# Altium integrated library NSC Interface.IntLib: 1288 symbols (part 37 of 45)
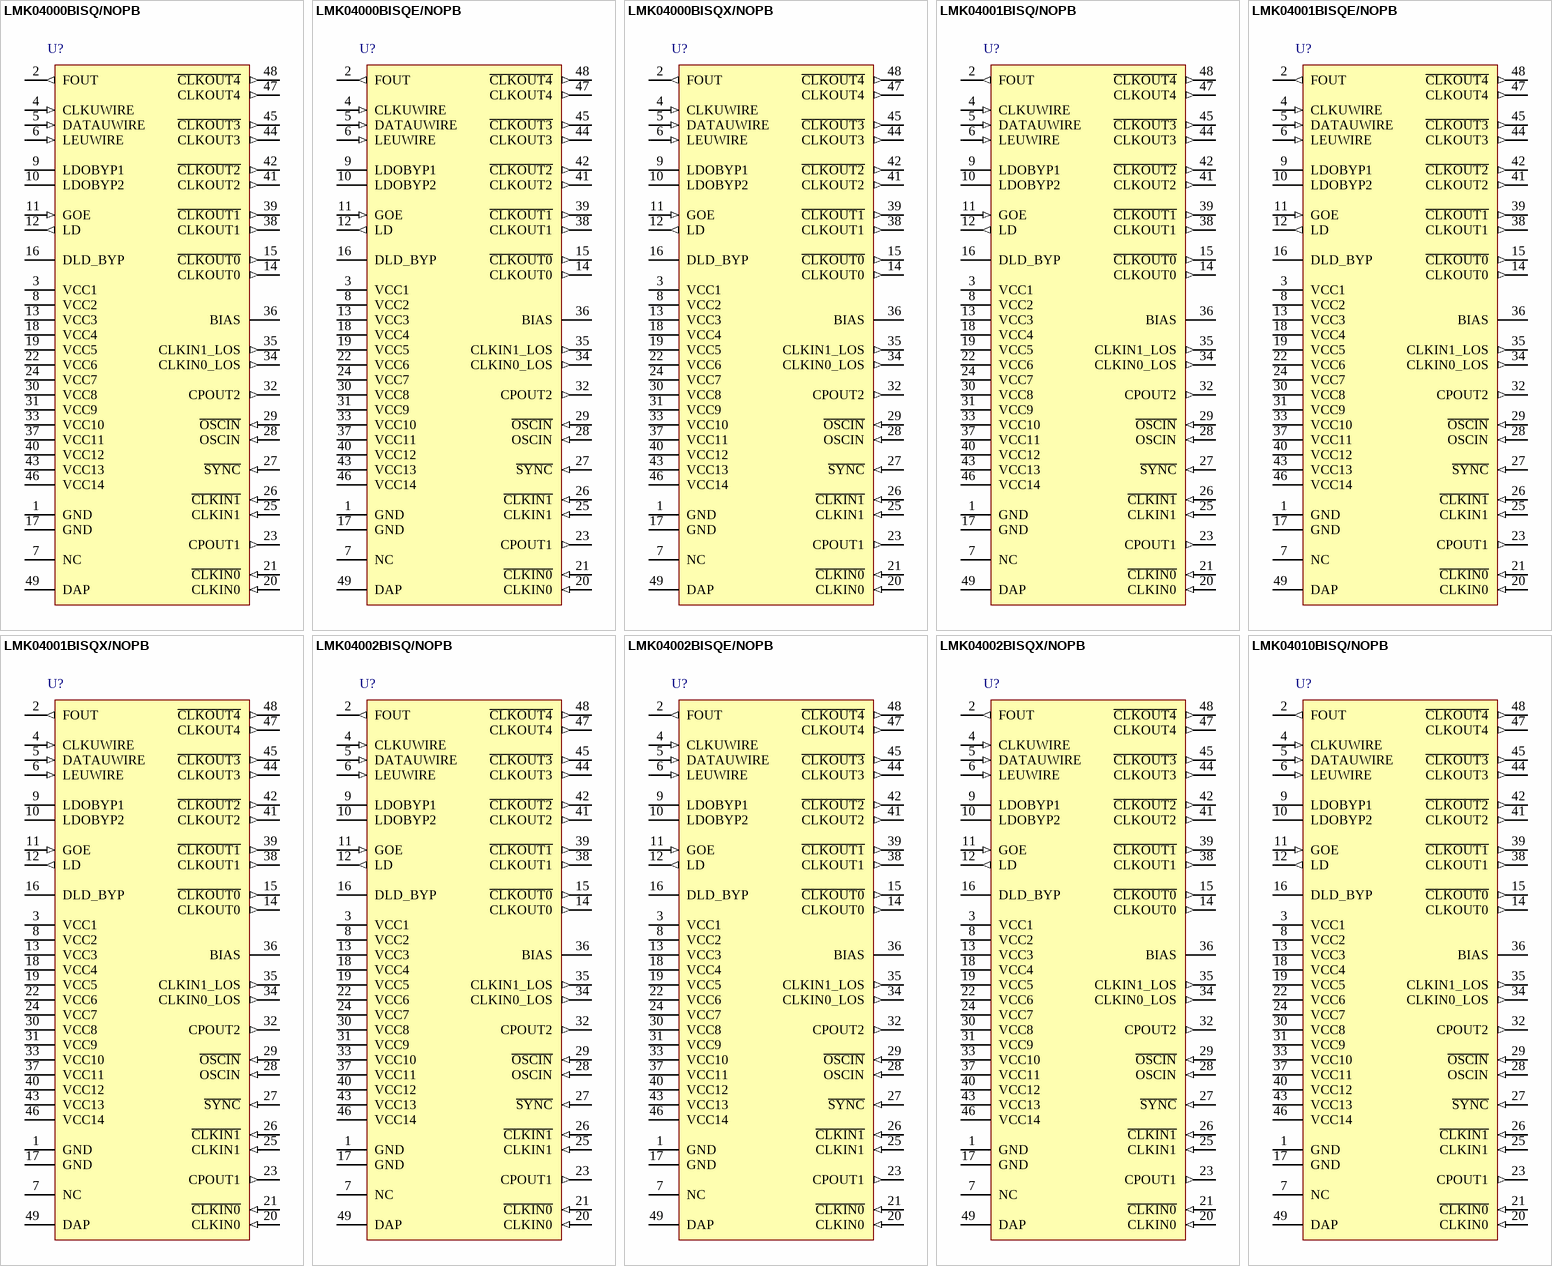
[diagram p148: symbols LMK04000BISQ/NOPB to LMK04010BISQ/NOPB]

## LMK04010BISQ/NOPB
designator U?
Low-Noise Clock Jitter Cleaner with Cascaded PLLs, 48-pin LLP, Pb-Free; PartNumber: LMK04010BISQ/NOPB; Manufacturer: National Semiconductor; PackageTopMarking: NS*UZXYTTE#*K04010BI; PowerWise: Y; CompType: Interface IC; Published: 1-Mar-2010; DatasheetVersion: Jul-2009; PackageVersion: revB, May-2009; PackageReference: SQA48A; Publisher: Altium Limited; PackageDescription: LLP, Plastic, Quad, 7 x 7 x 0.8mm Body, 48 Lead, 0.5mm Pitch, No Pullback; Supplier 1: Digi-Key; Supplier Part Number 1: LMK04010BISQ-ND; RoHS: Y; PinCount: 48; Code_JEDEC: MO-220-WKKD-2; ComponentLink1Description: LMK04010 Datasheet; ComponentLink1URL: http://www.national.com/ds/LM/LMK04010.pdf; ComponentLink2Description: LMK04010 Web Page; ComponentLink2URL: http://www.national.com/pf/LM/LMK04010.html; ComponentLink3Description: SQA48A Package Page; ComponentLink3URL: http://www.national.com/packaging/folders/sqa48a.html
footprint SQA48A (QFN, 48-Leads, Body 7x7mm, Pitch 0.5mm, NSC Recommended)
pins: 1 GND (power), 2 FOUT (out), 3 VCC1 (power), 4 CLKUWIRE (in), 5 DATAUWIRE (in), 6 LEUWIRE (in), 7 NC, 8 VCC2 (power), 9 LDOBYP1, 10 LDOBYP2, 11 GOE (in), 12 LD (out), 13 VCC3 (power), 14 CLKOUT0 (out), 15 ~{CLKOUT0} (out), 16 DLD_BYP (power), 17 GND (power), 18 VCC4 (power), 19 VCC5 (power), 20 CLKIN0 (in), 21 ~{CLKIN0} (in), 22 VCC6 (power), 23 CPOUT1 (out), 24 VCC7 (power), 25 CLKIN1 (in), 26 ~{CLKIN1} (in), 27 ~{SYNC} (in), 28 OSCIN (in), 29 ~{OSCIN} (in), 30 VCC8 (power), 31 VCC9 (power), 32 CPOUT2 (out), 33 VCC10 (power), 34 CLKIN0_LOS (out), 35 CLKIN1_LOS (out), 36 BIAS, 37 VCC11 (power), 38 CLKOUT1 (out), 39 ~{CLKOUT1} (out), 40 VCC12 (power), 41 CLKOUT2 (out), 42 ~{CLKOUT2} (out), 43 VCC13 (power), 44 CLKOUT3 (out), 45 ~{CLKOUT3} (out), 46 VCC14 (power), 47 CLKOUT4 (out), 48 ~{CLKOUT4} (out), 49 DAP (power)

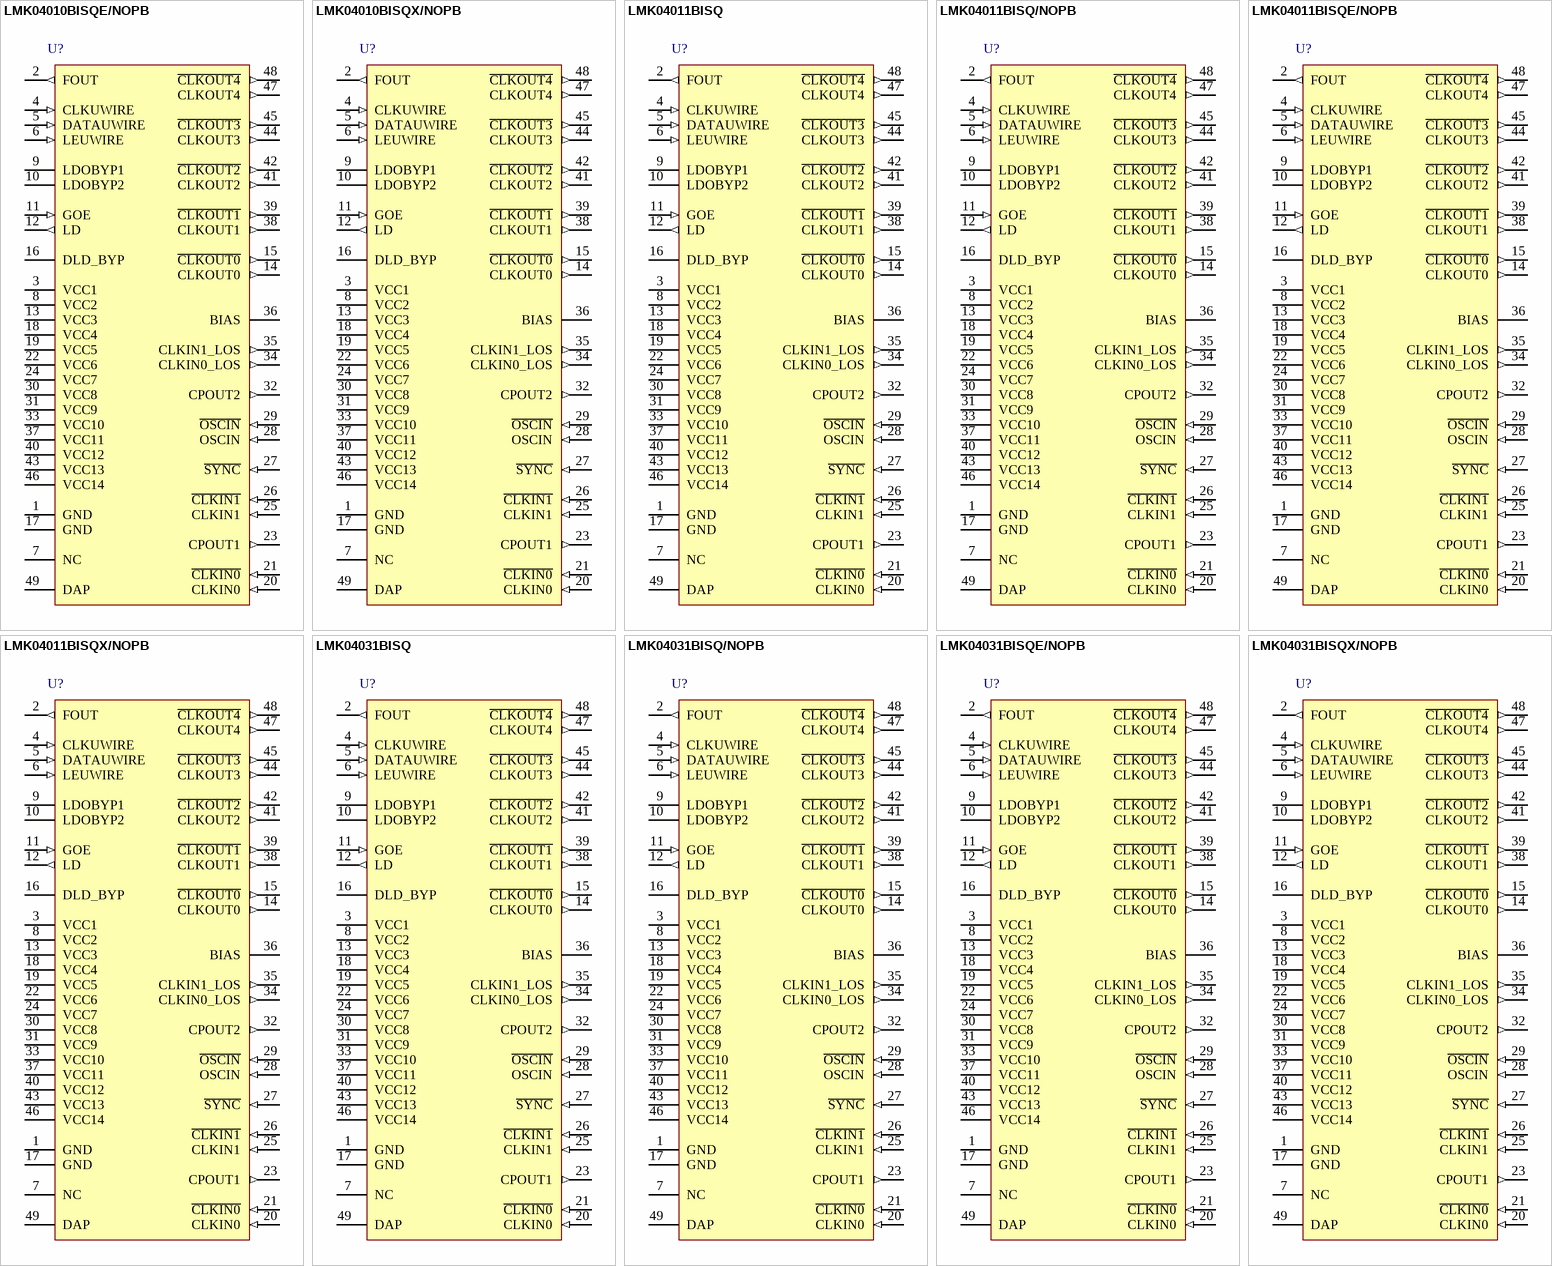
[diagram p91: symbols LMK04010BISQE/NOPB to LMK04031BISQX/NOPB]

## LMK04010BISQE/NOPB
designator U?
Low-Noise Clock Jitter Cleaner with Cascaded PLLs, 48-pin LLP, Pb-Free; PartNumber: LMK04010BISQE/NOPB; Manufacturer: National Semiconductor; PackageTopMarking: NS*UZXYTTE#*K04010BI; PowerWise: Y; CompType: Interface IC; Published: 1-Mar-2010; DatasheetVersion: Jul-2009; PackageVersion: revB, May-2009; PackageReference: SQA48A; Publisher: Altium Limited; PackageDescription: LLP, Plastic, Quad, 7 x 7 x 0.8mm Body, 48 Lead, 0.5mm Pitch, No Pullback; Supplier 1: Digi-Key; Supplier Part Number 1: LMK04010BISQETR-ND; Supplier 2: Digi-Key; Supplier Part Number 2: LMK04010BISQECT-ND; Supplier 3: Digi-Key; Supplier Part Number 3: LMK04010BISQEDKR-ND; Supplier 4: Farnell; Supplier Part Number 4: 1791117; RoHS: Y; PinCount: 48; Code_JEDEC: MO-220-WKKD-2; ComponentLink1Description: LMK04010 Datasheet; ComponentLink1URL: http://www.national.com/ds/LM/LMK04010.pdf; ComponentLink2Description: LMK04010 Web Page; ComponentLink2URL: http://www.national.com/pf/LM/LMK04010.html; ComponentLink3Description: SQA48A Package Page; ComponentLink3URL: http://www.national.com/packaging/folders/sqa48a.html
footprint SQA48A (QFN, 48-Leads, Body 7x7mm, Pitch 0.5mm, NSC Recommended)
pins: 1 GND (power), 2 FOUT (out), 3 VCC1 (power), 4 CLKUWIRE (in), 5 DATAUWIRE (in), 6 LEUWIRE (in), 7 NC, 8 VCC2 (power), 9 LDOBYP1, 10 LDOBYP2, 11 GOE (in), 12 LD (out), 13 VCC3 (power), 14 CLKOUT0 (out), 15 ~{CLKOUT0} (out), 16 DLD_BYP (power), 17 GND (power), 18 VCC4 (power), 19 VCC5 (power), 20 CLKIN0 (in), 21 ~{CLKIN0} (in), 22 VCC6 (power), 23 CPOUT1 (out), 24 VCC7 (power), 25 CLKIN1 (in), 26 ~{CLKIN1} (in), 27 ~{SYNC} (in), 28 OSCIN (in), 29 ~{OSCIN} (in), 30 VCC8 (power), 31 VCC9 (power), 32 CPOUT2 (out), 33 VCC10 (power), 34 CLKIN0_LOS (out), 35 CLKIN1_LOS (out), 36 BIAS, 37 VCC11 (power), 38 CLKOUT1 (out), 39 ~{CLKOUT1} (out), 40 VCC12 (power), 41 CLKOUT2 (out), 42 ~{CLKOUT2} (out), 43 VCC13 (power), 44 CLKOUT3 (out), 45 ~{CLKOUT3} (out), 46 VCC14 (power), 47 CLKOUT4 (out), 48 ~{CLKOUT4} (out), 49 DAP (power)

## LMK04010BISQX/NOPB
designator U?
Low-Noise Clock Jitter Cleaner with Cascaded PLLs, 48-pin LLP, Pb-Free; PartNumber: LMK04010BISQX/NOPB; Manufacturer: National Semiconductor; PackageTopMarking: NS*UZXYTTE#*K04010BI; PowerWise: Y; CompType: Interface IC; Published: 1-Mar-2010; DatasheetVersion: Jul-2009; PackageVersion: revB, May-2009; PackageReference: SQA48A; Publisher: Altium Limited; PackageDescription: LLP, Plastic, Quad, 7 x 7 x 0.8mm Body, 48 Lead, 0.5mm Pitch, No Pullback; Supplier 1: Digi-Key; Supplier Part Number 1: LMK04010BISQX-ND; RoHS: Y; PinCount: 48; Code_JEDEC: MO-220-WKKD-2; ComponentLink1Description: LMK04010 Datasheet; ComponentLink1URL: http://www.national.com/ds/LM/LMK04010.pdf; ComponentLink2Description: LMK04010 Web Page; ComponentLink2URL: http://www.national.com/pf/LM/LMK04010.html; ComponentLink3Description: SQA48A Package Page; ComponentLink3URL: http://www.national.com/packaging/folders/sqa48a.html
footprint SQA48A (QFN, 48-Leads, Body 7x7mm, Pitch 0.5mm, NSC Recommended)
pins: 1 GND (power), 2 FOUT (out), 3 VCC1 (power), 4 CLKUWIRE (in), 5 DATAUWIRE (in), 6 LEUWIRE (in), 7 NC, 8 VCC2 (power), 9 LDOBYP1, 10 LDOBYP2, 11 GOE (in), 12 LD (out), 13 VCC3 (power), 14 CLKOUT0 (out), 15 ~{CLKOUT0} (out), 16 DLD_BYP (power), 17 GND (power), 18 VCC4 (power), 19 VCC5 (power), 20 CLKIN0 (in), 21 ~{CLKIN0} (in), 22 VCC6 (power), 23 CPOUT1 (out), 24 VCC7 (power), 25 CLKIN1 (in), 26 ~{CLKIN1} (in), 27 ~{SYNC} (in), 28 OSCIN (in), 29 ~{OSCIN} (in), 30 VCC8 (power), 31 VCC9 (power), 32 CPOUT2 (out), 33 VCC10 (power), 34 CLKIN0_LOS (out), 35 CLKIN1_LOS (out), 36 BIAS, 37 VCC11 (power), 38 CLKOUT1 (out), 39 ~{CLKOUT1} (out), 40 VCC12 (power), 41 CLKOUT2 (out), 42 ~{CLKOUT2} (out), 43 VCC13 (power), 44 CLKOUT3 (out), 45 ~{CLKOUT3} (out), 46 VCC14 (power), 47 CLKOUT4 (out), 48 ~{CLKOUT4} (out), 49 DAP (power)

## LMK04011BISQ
designator U?
Precision Clock Conditioners Low-Noise Clock Jitter Cleaner with Cascaded PLLs, 48-pin LLP; PartNumber: LMK04011BISQ; Manufacturer: National Semiconductor; PackageTopMarking: NS*UZXYTT*K04011BI; PowerWise: Y; CompType: Interface IC; Published: 4-Dec-2008; LatestRevisionDate: 1-Mar-2010; LatestRevisionNote: Updated to datasheet version Jul-2009; DatasheetVersion: Jul-2009; PackageVersion: revB, May-2009; PackageReference: SQA48A; Publisher: Altium Limited; PackageDescription: LLP, Plastic, Quad, 7 x 7 x 0.8mm Body, 48 Lead, 0.5mm Pitch, No Pullback; RoHS: Y; PinCount: 48; Code_JEDEC: MO-220-WKKD-2; ComponentLink1Description: LMK04011B Datasheet; ComponentLink1URL: http://www.national.com/ds/LM/LMK04000.pdf; ComponentLink2Description: LMK04011B Web Page; ComponentLink2URL: http://www.national.com/pf/LM/LMK04011B.html; ComponentLink3Description: SQA48A Package Page; ComponentLink3URL: http://www.national.com/packaging/folders/sqa48a.html
footprint SQA48A (QFN, 48-Leads, Body 7x7mm, Pitch 0.5mm, NSC Recommended)
pins: 1 GND (power), 2 FOUT (out), 3 VCC1 (power), 4 CLKUWIRE (in), 5 DATAUWIRE (in), 6 LEUWIRE (in), 7 NC, 8 VCC2 (power), 9 LDOBYP1, 10 LDOBYP2, 11 GOE (in), 12 LD (out), 13 VCC3 (power), 14 CLKOUT0 (out), 15 ~{CLKOUT0} (out), 16 DLD_BYP (power), 17 GND (power), 18 VCC4 (power), 19 VCC5 (power), 20 CLKIN0 (in), 21 ~{CLKIN0} (in), 22 VCC6 (power), 23 CPOUT1 (out), 24 VCC7 (power), 25 CLKIN1 (in), 26 ~{CLKIN1} (in), 27 ~{SYNC} (in), 28 OSCIN (in), 29 ~{OSCIN} (in), 30 VCC8 (power), 31 VCC9 (power), 32 CPOUT2 (out), 33 VCC10 (power), 34 CLKIN0_LOS (out), 35 CLKIN1_LOS (out), 36 BIAS, 37 VCC11 (power), 38 CLKOUT1 (out), 39 ~{CLKOUT1} (out), 40 VCC12 (power), 41 CLKOUT2 (out), 42 ~{CLKOUT2} (out), 43 VCC13 (power), 44 CLKOUT3 (out), 45 ~{CLKOUT3} (out), 46 VCC14 (power), 47 CLKOUT4 (out), 48 ~{CLKOUT4} (out), 49 DAP (power)

## LMK04011BISQ/NOPB
designator U?
Low-Noise Clock Jitter Cleaner with Cascaded PLLs, 48-pin LLP, Pb-Free; PartNumber: LMK04011BISQ/NOPB; Manufacturer: National Semiconductor; PackageTopMarking: NS*UZXYTTE#*K04011BI; PowerWise: Y; CompType: Interface IC; Published: 1-Mar-2010; DatasheetVersion: Jul-2009; PackageVersion: revB, May-2009; PackageReference: SQA48A; Publisher: Altium Limited; PackageDescription: LLP, Plastic, Quad, 7 x 7 x 0.8mm Body, 48 Lead, 0.5mm Pitch, No Pullback; Supplier 1: Digi-Key; Supplier Part Number 1: LMK04011BISQ-ND; RoHS: Y; PinCount: 48; Code_JEDEC: MO-220-WKKD-2; ComponentLink1Description: LMK04011 Datasheet; ComponentLink1URL: http://www.national.com/ds/LM/LMK04011.pdf; ComponentLink2Description: LMK04011 Web Page; ComponentLink2URL: http://www.national.com/pf/LM/LMK04011.html; ComponentLink3Description: SQA48A Package Page; ComponentLink3URL: http://www.national.com/packaging/folders/sqa48a.html
footprint SQA48A (QFN, 48-Leads, Body 7x7mm, Pitch 0.5mm, NSC Recommended)
pins: 1 GND (power), 2 FOUT (out), 3 VCC1 (power), 4 CLKUWIRE (in), 5 DATAUWIRE (in), 6 LEUWIRE (in), 7 NC, 8 VCC2 (power), 9 LDOBYP1, 10 LDOBYP2, 11 GOE (in), 12 LD (out), 13 VCC3 (power), 14 CLKOUT0 (out), 15 ~{CLKOUT0} (out), 16 DLD_BYP (power), 17 GND (power), 18 VCC4 (power), 19 VCC5 (power), 20 CLKIN0 (in), 21 ~{CLKIN0} (in), 22 VCC6 (power), 23 CPOUT1 (out), 24 VCC7 (power), 25 CLKIN1 (in), 26 ~{CLKIN1} (in), 27 ~{SYNC} (in), 28 OSCIN (in), 29 ~{OSCIN} (in), 30 VCC8 (power), 31 VCC9 (power), 32 CPOUT2 (out), 33 VCC10 (power), 34 CLKIN0_LOS (out), 35 CLKIN1_LOS (out), 36 BIAS, 37 VCC11 (power), 38 CLKOUT1 (out), 39 ~{CLKOUT1} (out), 40 VCC12 (power), 41 CLKOUT2 (out), 42 ~{CLKOUT2} (out), 43 VCC13 (power), 44 CLKOUT3 (out), 45 ~{CLKOUT3} (out), 46 VCC14 (power), 47 CLKOUT4 (out), 48 ~{CLKOUT4} (out), 49 DAP (power)

## LMK04011BISQE/NOPB
designator U?
Low-Noise Clock Jitter Cleaner with Cascaded PLLs, 48-pin LLP, Pb-Free; PartNumber: LMK04011BISQE/NOPB; Manufacturer: National Semiconductor; PackageTopMarking: NS*UZXYTTE#*K04011BI; PowerWise: Y; CompType: Interface IC; Published: 1-Mar-2010; DatasheetVersion: Jul-2009; PackageVersion: revB, May-2009; PackageReference: SQA48A; Publisher: Altium Limited; PackageDescription: LLP, Plastic, Quad, 7 x 7 x 0.8mm Body, 48 Lead, 0.5mm Pitch, No Pullback; Supplier 1: Digi-Key; Supplier Part Number 1: LMK04011BISQETR-ND; Supplier 2: Digi-Key; Supplier Part Number 2: LMK04011BISQECT-ND; Supplier 3: Digi-Key; Supplier Part Number 3: LMK04011BISQEDKR-ND; RoHS: Y; PinCount: 48; Code_JEDEC: MO-220-WKKD-2; ComponentLink1Description: LMK04011 Datasheet; ComponentLink1URL: http://www.national.com/ds/LM/LMK04011.pdf; ComponentLink2Description: LMK04011 Web Page; ComponentLink2URL: http://www.national.com/pf/LM/LMK04011.html; ComponentLink3Description: SQA48A Package Page; ComponentLink3URL: http://www.national.com/packaging/folders/sqa48a.html
footprint SQA48A (QFN, 48-Leads, Body 7x7mm, Pitch 0.5mm, NSC Recommended)
pins: 1 GND (power), 2 FOUT (out), 3 VCC1 (power), 4 CLKUWIRE (in), 5 DATAUWIRE (in), 6 LEUWIRE (in), 7 NC, 8 VCC2 (power), 9 LDOBYP1, 10 LDOBYP2, 11 GOE (in), 12 LD (out), 13 VCC3 (power), 14 CLKOUT0 (out), 15 ~{CLKOUT0} (out), 16 DLD_BYP (power), 17 GND (power), 18 VCC4 (power), 19 VCC5 (power), 20 CLKIN0 (in), 21 ~{CLKIN0} (in), 22 VCC6 (power), 23 CPOUT1 (out), 24 VCC7 (power), 25 CLKIN1 (in), 26 ~{CLKIN1} (in), 27 ~{SYNC} (in), 28 OSCIN (in), 29 ~{OSCIN} (in), 30 VCC8 (power), 31 VCC9 (power), 32 CPOUT2 (out), 33 VCC10 (power), 34 CLKIN0_LOS (out), 35 CLKIN1_LOS (out), 36 BIAS, 37 VCC11 (power), 38 CLKOUT1 (out), 39 ~{CLKOUT1} (out), 40 VCC12 (power), 41 CLKOUT2 (out), 42 ~{CLKOUT2} (out), 43 VCC13 (power), 44 CLKOUT3 (out), 45 ~{CLKOUT3} (out), 46 VCC14 (power), 47 CLKOUT4 (out), 48 ~{CLKOUT4} (out), 49 DAP (power)

## LMK04011BISQX/NOPB
designator U?
Low-Noise Clock Jitter Cleaner with Cascaded PLLs, 48-pin LLP, Pb-Free; PartNumber: LMK04011BISQX/NOPB; Manufacturer: National Semiconductor; PackageTopMarking: NS*UZXYTTE#*K04011BI; PowerWise: Y; CompType: Interface IC; Published: 1-Mar-2010; DatasheetVersion: Jul-2009; PackageVersion: revB, May-2009; PackageReference: SQA48A; Publisher: Altium Limited; PackageDescription: LLP, Plastic, Quad, 7 x 7 x 0.8mm Body, 48 Lead, 0.5mm Pitch, No Pullback; Supplier 1: Digi-Key; Supplier Part Number 1: LMK04011BISQX-ND; RoHS: Y; PinCount: 48; Code_JEDEC: MO-220-WKKD-2; ComponentLink1Description: LMK04011 Datasheet; ComponentLink1URL: http://www.national.com/ds/LM/LMK04011.pdf; ComponentLink2Description: LMK04011 Web Page; ComponentLink2URL: http://www.national.com/pf/LM/LMK04011.html; ComponentLink3Description: SQA48A Package Page; ComponentLink3URL: http://www.national.com/packaging/folders/sqa48a.html
footprint SQA48A (QFN, 48-Leads, Body 7x7mm, Pitch 0.5mm, NSC Recommended)
pins: 1 GND (power), 2 FOUT (out), 3 VCC1 (power), 4 CLKUWIRE (in), 5 DATAUWIRE (in), 6 LEUWIRE (in), 7 NC, 8 VCC2 (power), 9 LDOBYP1, 10 LDOBYP2, 11 GOE (in), 12 LD (out), 13 VCC3 (power), 14 CLKOUT0 (out), 15 ~{CLKOUT0} (out), 16 DLD_BYP (power), 17 GND (power), 18 VCC4 (power), 19 VCC5 (power), 20 CLKIN0 (in), 21 ~{CLKIN0} (in), 22 VCC6 (power), 23 CPOUT1 (out), 24 VCC7 (power), 25 CLKIN1 (in), 26 ~{CLKIN1} (in), 27 ~{SYNC} (in), 28 OSCIN (in), 29 ~{OSCIN} (in), 30 VCC8 (power), 31 VCC9 (power), 32 CPOUT2 (out), 33 VCC10 (power), 34 CLKIN0_LOS (out), 35 CLKIN1_LOS (out), 36 BIAS, 37 VCC11 (power), 38 CLKOUT1 (out), 39 ~{CLKOUT1} (out), 40 VCC12 (power), 41 CLKOUT2 (out), 42 ~{CLKOUT2} (out), 43 VCC13 (power), 44 CLKOUT3 (out), 45 ~{CLKOUT3} (out), 46 VCC14 (power), 47 CLKOUT4 (out), 48 ~{CLKOUT4} (out), 49 DAP (power)

## LMK04031BISQ
designator U?
Precision Clock Conditioners Low-Noise Clock Jitter Cleaner with Cascaded PLLs, 48-pin LLP; PartNumber: LMK04031BISQ; Manufacturer: National Semiconductor; PackageTopMarking: NS*UZXYTT*K04031BI; PowerWise: Y; CompType: Interface IC; Published: 4-Dec-2008; LatestRevisionDate: 1-Mar-2010; LatestRevisionNote: Updated to datasheet version Jul-2009; DatasheetVersion: Jul-2009; PackageVersion: revB, May-2009; PackageReference: SQA48A; Publisher: Altium Limited; PackageDescription: LLP, Plastic, Quad, 7 x 7 x 0.8mm Body, 48 Lead, 0.5mm Pitch, No Pullback; RoHS: Y; PinCount: 48; Code_JEDEC: MO-220-WKKD-2; ComponentLink1Description: LMK04031B Datasheet; ComponentLink1URL: http://www.national.com/ds/LM/LMK04000.pdf; ComponentLink2Description: LMK04031B Web Page; ComponentLink2URL: http://www.national.com/pf/LM/LMK04031B.html; ComponentLink3Description: SQA48A Package Page; ComponentLink3URL: http://www.national.com/packaging/folders/sqa48a.html
footprint SQA48A (QFN, 48-Leads, Body 7x7mm, Pitch 0.5mm, NSC Recommended)
pins: 1 GND (power), 2 FOUT (out), 3 VCC1 (power), 4 CLKUWIRE (in), 5 DATAUWIRE (in), 6 LEUWIRE (in), 7 NC, 8 VCC2 (power), 9 LDOBYP1, 10 LDOBYP2, 11 GOE (in), 12 LD (out), 13 VCC3 (power), 14 CLKOUT0 (out), 15 ~{CLKOUT0} (out), 16 DLD_BYP (power), 17 GND (power), 18 VCC4 (power), 19 VCC5 (power), 20 CLKIN0 (in), 21 ~{CLKIN0} (in), 22 VCC6 (power), 23 CPOUT1 (out), 24 VCC7 (power), 25 CLKIN1 (in), 26 ~{CLKIN1} (in), 27 ~{SYNC} (in), 28 OSCIN (in), 29 ~{OSCIN} (in), 30 VCC8 (power), 31 VCC9 (power), 32 CPOUT2 (out), 33 VCC10 (power), 34 CLKIN0_LOS (out), 35 CLKIN1_LOS (out), 36 BIAS, 37 VCC11 (power), 38 CLKOUT1 (out), 39 ~{CLKOUT1} (out), 40 VCC12 (power), 41 CLKOUT2 (out), 42 ~{CLKOUT2} (out), 43 VCC13 (power), 44 CLKOUT3 (out), 45 ~{CLKOUT3} (out), 46 VCC14 (power), 47 CLKOUT4 (out), 48 ~{CLKOUT4} (out), 49 DAP (power)

## LMK04031BISQ/NOPB
designator U?
Low-Noise Clock Jitter Cleaner with Cascaded PLLs, 48-pin LLP, Pb-Free; PartNumber: LMK04031BISQ/NOPB; Manufacturer: National Semiconductor; PackageTopMarking: NS*UZXYTTE#*K04031BI; PowerWise: Y; CompType: Interface IC; Published: 1-Mar-2010; DatasheetVersion: Jul-2009; PackageVersion: revB, May-2009; PackageReference: SQA48A; Publisher: Altium Limited; PackageDescription: LLP, Plastic, Quad, 7 x 7 x 0.8mm Body, 48 Lead, 0.5mm Pitch, No Pullback; Supplier 1: Digi-Key; Supplier Part Number 1: LMK04031BISQ-ND; RoHS: Y; PinCount: 48; Code_JEDEC: MO-220-WKKD-2; ComponentLink1Description: LMK04031 Datasheet; ComponentLink1URL: http://www.national.com/ds/LM/LMK04031.pdf; ComponentLink2Description: LMK04031 Web Page; ComponentLink2URL: http://www.national.com/pf/LM/LMK04031.html; ComponentLink3Description: SQA48A Package Page; ComponentLink3URL: http://www.national.com/packaging/folders/sqa48a.html
footprint SQA48A (QFN, 48-Leads, Body 7x7mm, Pitch 0.5mm, NSC Recommended)
pins: 1 GND (power), 2 FOUT (out), 3 VCC1 (power), 4 CLKUWIRE (in), 5 DATAUWIRE (in), 6 LEUWIRE (in), 7 NC, 8 VCC2 (power), 9 LDOBYP1, 10 LDOBYP2, 11 GOE (in), 12 LD (out), 13 VCC3 (power), 14 CLKOUT0 (out), 15 ~{CLKOUT0} (out), 16 DLD_BYP (power), 17 GND (power), 18 VCC4 (power), 19 VCC5 (power), 20 CLKIN0 (in), 21 ~{CLKIN0} (in), 22 VCC6 (power), 23 CPOUT1 (out), 24 VCC7 (power), 25 CLKIN1 (in), 26 ~{CLKIN1} (in), 27 ~{SYNC} (in), 28 OSCIN (in), 29 ~{OSCIN} (in), 30 VCC8 (power), 31 VCC9 (power), 32 CPOUT2 (out), 33 VCC10 (power), 34 CLKIN0_LOS (out), 35 CLKIN1_LOS (out), 36 BIAS, 37 VCC11 (power), 38 CLKOUT1 (out), 39 ~{CLKOUT1} (out), 40 VCC12 (power), 41 CLKOUT2 (out), 42 ~{CLKOUT2} (out), 43 VCC13 (power), 44 CLKOUT3 (out), 45 ~{CLKOUT3} (out), 46 VCC14 (power), 47 CLKOUT4 (out), 48 ~{CLKOUT4} (out), 49 DAP (power)

## LMK04031BISQE/NOPB
designator U?
Low-Noise Clock Jitter Cleaner with Cascaded PLLs, 48-pin LLP, Pb-Free; PartNumber: LMK04031BISQE/NOPB; Manufacturer: National Semiconductor; PackageTopMarking: NS*UZXYTTE#*K04031BI; PowerWise: Y; CompType: Interface IC; Published: 1-Mar-2010; DatasheetVersion: Jul-2009; PackageVersion: revB, May-2009; PackageReference: SQA48A; Publisher: Altium Limited; PackageDescription: LLP, Plastic, Quad, 7 x 7 x 0.8mm Body, 48 Lead, 0.5mm Pitch, No Pullback; Supplier 1: Digi-Key; Supplier Part Number 1: LMK04031BISQETR-ND; Supplier 2: Digi-Key; Supplier Part Number 2: LMK04031BISQECT-ND; Supplier 3: Digi-Key; Supplier Part Number 3: LMK04031BISQEDKR-ND; RoHS: Y; PinCount: 48; Code_JEDEC: MO-220-WKKD-2; ComponentLink1Description: LMK04031 Datasheet; ComponentLink1URL: http://www.national.com/ds/LM/LMK04031.pdf; ComponentLink2Description: LMK04031 Web Page; ComponentLink2URL: http://www.national.com/pf/LM/LMK04031.html; ComponentLink3Description: SQA48A Package Page; ComponentLink3URL: http://www.national.com/packaging/folders/sqa48a.html
footprint SQA48A (QFN, 48-Leads, Body 7x7mm, Pitch 0.5mm, NSC Recommended)
pins: 1 GND (power), 2 FOUT (out), 3 VCC1 (power), 4 CLKUWIRE (in), 5 DATAUWIRE (in), 6 LEUWIRE (in), 7 NC, 8 VCC2 (power), 9 LDOBYP1, 10 LDOBYP2, 11 GOE (in), 12 LD (out), 13 VCC3 (power), 14 CLKOUT0 (out), 15 ~{CLKOUT0} (out), 16 DLD_BYP (power), 17 GND (power), 18 VCC4 (power), 19 VCC5 (power), 20 CLKIN0 (in), 21 ~{CLKIN0} (in), 22 VCC6 (power), 23 CPOUT1 (out), 24 VCC7 (power), 25 CLKIN1 (in), 26 ~{CLKIN1} (in), 27 ~{SYNC} (in), 28 OSCIN (in), 29 ~{OSCIN} (in), 30 VCC8 (power), 31 VCC9 (power), 32 CPOUT2 (out), 33 VCC10 (power), 34 CLKIN0_LOS (out), 35 CLKIN1_LOS (out), 36 BIAS, 37 VCC11 (power), 38 CLKOUT1 (out), 39 ~{CLKOUT1} (out), 40 VCC12 (power), 41 CLKOUT2 (out), 42 ~{CLKOUT2} (out), 43 VCC13 (power), 44 CLKOUT3 (out), 45 ~{CLKOUT3} (out), 46 VCC14 (power), 47 CLKOUT4 (out), 48 ~{CLKOUT4} (out), 49 DAP (power)

## LMK04031BISQX/NOPB
designator U?
Low-Noise Clock Jitter Cleaner with Cascaded PLLs, 48-pin LLP, Pb-Free; PartNumber: LMK04031BISQX/NOPB; Manufacturer: National Semiconductor; PackageTopMarking: NS*UZXYTTE#*K04031BI; PowerWise: Y; CompType: Interface IC; Published: 1-Mar-2010; DatasheetVersion: Jul-2009; PackageVersion: revB, May-2009; PackageReference: SQA48A; Publisher: Altium Limited; PackageDescription: LLP, Plastic, Quad, 7 x 7 x 0.8mm Body, 48 Lead, 0.5mm Pitch, No Pullback; Supplier 1: Digi-Key; Supplier Part Number 1: LMK04031BISQX-ND; RoHS: Y; PinCount: 48; Code_JEDEC: MO-220-WKKD-2; ComponentLink1Description: LMK04031 Datasheet; ComponentLink1URL: http://www.national.com/ds/LM/LMK04031.pdf; ComponentLink2Description: LMK04031 Web Page; ComponentLink2URL: http://www.national.com/pf/LM/LMK04031.html; ComponentLink3Description: SQA48A Package Page; ComponentLink3URL: http://www.national.com/packaging/folders/sqa48a.html
footprint SQA48A (QFN, 48-Leads, Body 7x7mm, Pitch 0.5mm, NSC Recommended)
pins: 1 GND (power), 2 FOUT (out), 3 VCC1 (power), 4 CLKUWIRE (in), 5 DATAUWIRE (in), 6 LEUWIRE (in), 7 NC, 8 VCC2 (power), 9 LDOBYP1, 10 LDOBYP2, 11 GOE (in), 12 LD (out), 13 VCC3 (power), 14 CLKOUT0 (out), 15 ~{CLKOUT0} (out), 16 DLD_BYP (power), 17 GND (power), 18 VCC4 (power), 19 VCC5 (power), 20 CLKIN0 (in), 21 ~{CLKIN0} (in), 22 VCC6 (power), 23 CPOUT1 (out), 24 VCC7 (power), 25 CLKIN1 (in), 26 ~{CLKIN1} (in), 27 ~{SYNC} (in), 28 OSCIN (in), 29 ~{OSCIN} (in), 30 VCC8 (power), 31 VCC9 (power), 32 CPOUT2 (out), 33 VCC10 (power), 34 CLKIN0_LOS (out), 35 CLKIN1_LOS (out), 36 BIAS, 37 VCC11 (power), 38 CLKOUT1 (out), 39 ~{CLKOUT1} (out), 40 VCC12 (power), 41 CLKOUT2 (out), 42 ~{CLKOUT2} (out), 43 VCC13 (power), 44 CLKOUT3 (out), 45 ~{CLKOUT3} (out), 46 VCC14 (power), 47 CLKOUT4 (out), 48 ~{CLKOUT4} (out), 49 DAP (power)

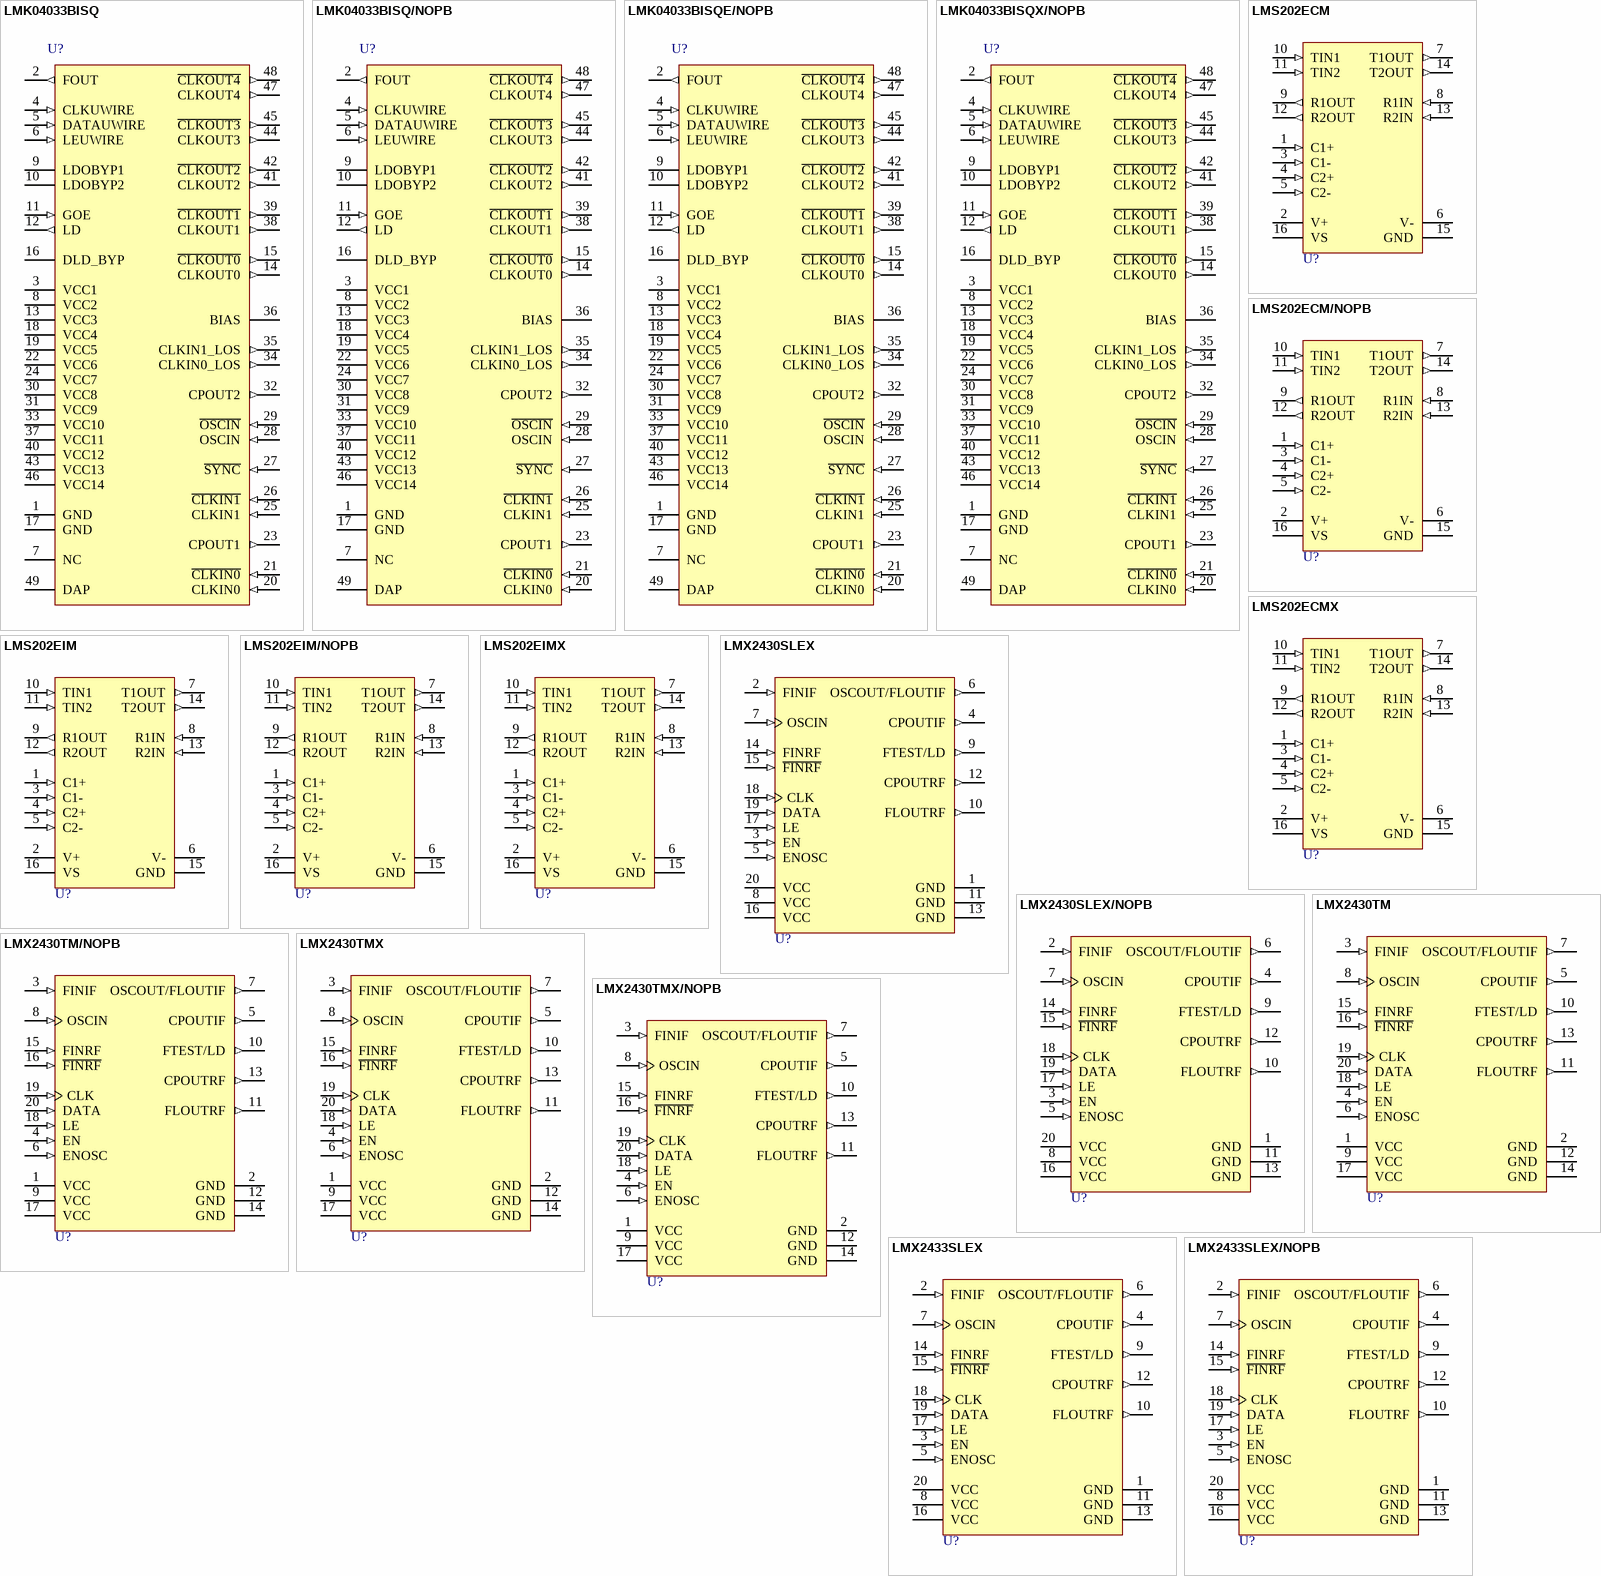
[diagram p92: symbols LMK04033BISQ to LMX2433SLEX/NOPB]

## LMK04033BISQ
designator U?
Precision Clock Conditioners Low-Noise Clock Jitter Cleaner with Cascaded PLLs, 48-pin LLP; PartNumber: LMK04033BISQ; Manufacturer: National Semiconductor; PackageTopMarking: NS*UZXYTT*K04033BI; PowerWise: Y; CompType: Interface IC; Published: 4-Dec-2008; LatestRevisionDate: 1-Mar-2010; LatestRevisionNote: Updated to datasheet version Jul-2009; DatasheetVersion: Jul-2009; PackageVersion: revB, May-2009; PackageReference: SQA48A; Publisher: Altium Limited; PackageDescription: LLP, Plastic, Quad, 7 x 7 x 0.8mm Body, 48 Lead, 0.5mm Pitch, No Pullback; RoHS: Y; PinCount: 48; Code_JEDEC: MO-220-WKKD-2; ComponentLink1Description: LMK04033B Datasheet; ComponentLink1URL: http://www.national.com/ds/LM/LMK04000.pdf; ComponentLink2Description: LMK04033B Web Page; ComponentLink2URL: http://www.national.com/pf/LM/LMK04033B.html; ComponentLink3Description: SQA48A Package Page; ComponentLink3URL: http://www.national.com/packaging/folders/sqa48a.html
footprint SQA48A (QFN, 48-Leads, Body 7x7mm, Pitch 0.5mm, NSC Recommended)
pins: 1 GND (power), 2 FOUT (out), 3 VCC1 (power), 4 CLKUWIRE (in), 5 DATAUWIRE (in), 6 LEUWIRE (in), 7 NC, 8 VCC2 (power), 9 LDOBYP1, 10 LDOBYP2, 11 GOE (in), 12 LD (out), 13 VCC3 (power), 14 CLKOUT0 (out), 15 ~{CLKOUT0} (out), 16 DLD_BYP (power), 17 GND (power), 18 VCC4 (power), 19 VCC5 (power), 20 CLKIN0 (in), 21 ~{CLKIN0} (in), 22 VCC6 (power), 23 CPOUT1 (out), 24 VCC7 (power), 25 CLKIN1 (in), 26 ~{CLKIN1} (in), 27 ~{SYNC} (in), 28 OSCIN (in), 29 ~{OSCIN} (in), 30 VCC8 (power), 31 VCC9 (power), 32 CPOUT2 (out), 33 VCC10 (power), 34 CLKIN0_LOS (out), 35 CLKIN1_LOS (out), 36 BIAS, 37 VCC11 (power), 38 CLKOUT1 (out), 39 ~{CLKOUT1} (out), 40 VCC12 (power), 41 CLKOUT2 (out), 42 ~{CLKOUT2} (out), 43 VCC13 (power), 44 CLKOUT3 (out), 45 ~{CLKOUT3} (out), 46 VCC14 (power), 47 CLKOUT4 (out), 48 ~{CLKOUT4} (out), 49 DAP (power)

## LMK04033BISQ/NOPB
designator U?
Low-Noise Clock Jitter Cleaner with Cascaded PLLs, 48-pin LLP, Pb-Free; PartNumber: LMK04033BISQ/NOPB; Manufacturer: National Semiconductor; PackageTopMarking: NS*UZXYTTE#*K04033BI; PowerWise: Y; CompType: Interface IC; Published: 1-Mar-2010; DatasheetVersion: Jul-2009; PackageVersion: revB, May-2009; PackageReference: SQA48A; Publisher: Altium Limited; PackageDescription: LLP, Plastic, Quad, 7 x 7 x 0.8mm Body, 48 Lead, 0.5mm Pitch, No Pullback; Supplier 1: Digi-Key; Supplier Part Number 1: LMK04033BISQ-ND; RoHS: Y; PinCount: 48; Code_JEDEC: MO-220-WKKD-2; ComponentLink1Description: LMK04033 Datasheet; ComponentLink1URL: http://www.national.com/ds/LM/LMK04033.pdf; ComponentLink2Description: LMK04033 Web Page; ComponentLink2URL: http://www.national.com/pf/LM/LMK04033.html; ComponentLink3Description: SQA48A Package Page; ComponentLink3URL: http://www.national.com/packaging/folders/sqa48a.html
footprint SQA48A (QFN, 48-Leads, Body 7x7mm, Pitch 0.5mm, NSC Recommended)
pins: 1 GND (power), 2 FOUT (out), 3 VCC1 (power), 4 CLKUWIRE (in), 5 DATAUWIRE (in), 6 LEUWIRE (in), 7 NC, 8 VCC2 (power), 9 LDOBYP1, 10 LDOBYP2, 11 GOE (in), 12 LD (out), 13 VCC3 (power), 14 CLKOUT0 (out), 15 ~{CLKOUT0} (out), 16 DLD_BYP (power), 17 GND (power), 18 VCC4 (power), 19 VCC5 (power), 20 CLKIN0 (in), 21 ~{CLKIN0} (in), 22 VCC6 (power), 23 CPOUT1 (out), 24 VCC7 (power), 25 CLKIN1 (in), 26 ~{CLKIN1} (in), 27 ~{SYNC} (in), 28 OSCIN (in), 29 ~{OSCIN} (in), 30 VCC8 (power), 31 VCC9 (power), 32 CPOUT2 (out), 33 VCC10 (power), 34 CLKIN0_LOS (out), 35 CLKIN1_LOS (out), 36 BIAS, 37 VCC11 (power), 38 CLKOUT1 (out), 39 ~{CLKOUT1} (out), 40 VCC12 (power), 41 CLKOUT2 (out), 42 ~{CLKOUT2} (out), 43 VCC13 (power), 44 CLKOUT3 (out), 45 ~{CLKOUT3} (out), 46 VCC14 (power), 47 CLKOUT4 (out), 48 ~{CLKOUT4} (out), 49 DAP (power)

## LMK04033BISQE/NOPB
designator U?
Low-Noise Clock Jitter Cleaner with Cascaded PLLs, 48-pin LLP, Pb-Free; PartNumber: LMK04033BISQE/NOPB; Manufacturer: National Semiconductor; PackageTopMarking: NS*UZXYTTE#*K04033BI; PowerWise: Y; CompType: Interface IC; Published: 1-Mar-2010; DatasheetVersion: Jul-2009; PackageVersion: revB, May-2009; PackageReference: SQA48A; Publisher: Altium Limited; PackageDescription: LLP, Plastic, Quad, 7 x 7 x 0.8mm Body, 48 Lead, 0.5mm Pitch, No Pullback; Supplier 1: Digi-Key; Supplier Part Number 1: LMK04033BISQETR-ND; Supplier 2: Digi-Key; Supplier Part Number 2: LMK04033BISQECT-ND; Supplier 3: Digi-Key; Supplier Part Number 3: LMK04033BISQEDKR-ND; Supplier 4: Farnell; Supplier Part Number 4: 1684976; RoHS: Y; PinCount: 48; Code_JEDEC: MO-220-WKKD-2; ComponentLink1Description: LMK04033 Datasheet; ComponentLink1URL: http://www.national.com/ds/LM/LMK04033.pdf; ComponentLink2Description: LMK04033 Web Page; ComponentLink2URL: http://www.national.com/pf/LM/LMK04033.html; ComponentLink3Description: SQA48A Package Page; ComponentLink3URL: http://www.national.com/packaging/folders/sqa48a.html
footprint SQA48A (QFN, 48-Leads, Body 7x7mm, Pitch 0.5mm, NSC Recommended)
pins: 1 GND (power), 2 FOUT (out), 3 VCC1 (power), 4 CLKUWIRE (in), 5 DATAUWIRE (in), 6 LEUWIRE (in), 7 NC, 8 VCC2 (power), 9 LDOBYP1, 10 LDOBYP2, 11 GOE (in), 12 LD (out), 13 VCC3 (power), 14 CLKOUT0 (out), 15 ~{CLKOUT0} (out), 16 DLD_BYP (power), 17 GND (power), 18 VCC4 (power), 19 VCC5 (power), 20 CLKIN0 (in), 21 ~{CLKIN0} (in), 22 VCC6 (power), 23 CPOUT1 (out), 24 VCC7 (power), 25 CLKIN1 (in), 26 ~{CLKIN1} (in), 27 ~{SYNC} (in), 28 OSCIN (in), 29 ~{OSCIN} (in), 30 VCC8 (power), 31 VCC9 (power), 32 CPOUT2 (out), 33 VCC10 (power), 34 CLKIN0_LOS (out), 35 CLKIN1_LOS (out), 36 BIAS, 37 VCC11 (power), 38 CLKOUT1 (out), 39 ~{CLKOUT1} (out), 40 VCC12 (power), 41 CLKOUT2 (out), 42 ~{CLKOUT2} (out), 43 VCC13 (power), 44 CLKOUT3 (out), 45 ~{CLKOUT3} (out), 46 VCC14 (power), 47 CLKOUT4 (out), 48 ~{CLKOUT4} (out), 49 DAP (power)

## LMK04033BISQX/NOPB
designator U?
Low-Noise Clock Jitter Cleaner with Cascaded PLLs, 48-pin LLP, Pb-Free; PartNumber: LMK04033BISQX/NOPB; Manufacturer: National Semiconductor; PackageTopMarking: NS*UZXYTTE#*K04033BI; PowerWise: Y; CompType: Interface IC; Published: 1-Mar-2010; DatasheetVersion: Jul-2009; PackageVersion: revB, May-2009; PackageReference: SQA48A; Publisher: Altium Limited; PackageDescription: LLP, Plastic, Quad, 7 x 7 x 0.8mm Body, 48 Lead, 0.5mm Pitch, No Pullback; Supplier 1: Digi-Key; Supplier Part Number 1: LMK04033BISQX-ND; RoHS: Y; PinCount: 48; Code_JEDEC: MO-220-WKKD-2; ComponentLink1Description: LMK04033 Datasheet; ComponentLink1URL: http://www.national.com/ds/LM/LMK04033.pdf; ComponentLink2Description: LMK04033 Web Page; ComponentLink2URL: http://www.national.com/pf/LM/LMK04033.html; ComponentLink3Description: SQA48A Package Page; ComponentLink3URL: http://www.national.com/packaging/folders/sqa48a.html
footprint SQA48A (QFN, 48-Leads, Body 7x7mm, Pitch 0.5mm, NSC Recommended)
pins: 1 GND (power), 2 FOUT (out), 3 VCC1 (power), 4 CLKUWIRE (in), 5 DATAUWIRE (in), 6 LEUWIRE (in), 7 NC, 8 VCC2 (power), 9 LDOBYP1, 10 LDOBYP2, 11 GOE (in), 12 LD (out), 13 VCC3 (power), 14 CLKOUT0 (out), 15 ~{CLKOUT0} (out), 16 DLD_BYP (power), 17 GND (power), 18 VCC4 (power), 19 VCC5 (power), 20 CLKIN0 (in), 21 ~{CLKIN0} (in), 22 VCC6 (power), 23 CPOUT1 (out), 24 VCC7 (power), 25 CLKIN1 (in), 26 ~{CLKIN1} (in), 27 ~{SYNC} (in), 28 OSCIN (in), 29 ~{OSCIN} (in), 30 VCC8 (power), 31 VCC9 (power), 32 CPOUT2 (out), 33 VCC10 (power), 34 CLKIN0_LOS (out), 35 CLKIN1_LOS (out), 36 BIAS, 37 VCC11 (power), 38 CLKOUT1 (out), 39 ~{CLKOUT1} (out), 40 VCC12 (power), 41 CLKOUT2 (out), 42 ~{CLKOUT2} (out), 43 VCC13 (power), 44 CLKOUT3 (out), 45 ~{CLKOUT3} (out), 46 VCC14 (power), 47 CLKOUT4 (out), 48 ~{CLKOUT4} (out), 49 DAP (power)

## LMS202ECM
designator U?
15KV ESD Rated, 5V Single Supply TIA/EIA-232 Dual Transceivers, 16-pin Narrow SOIC; PartNumber: LMS202ECM; Manufacturer: National Semiconductor; PackageTopMarking: NSUZXYTTE#*LMS202ECM; PowerWise: N; CompType: Interface IC; Published: 4-Dec-2008; DatasheetVersion: Mar-2003; PackageVersion: revJ, Aug-1995; PackageReference: M16A; Publisher: Altium Limited; PackageDescription: Molded Package, SO, .150in Wide, 16 Lead; Supplier 1: Farnell; Supplier Part Number 1: 9490787; RoHS: N; PinCount: 16; Code_JEDEC: MS-012-AC; Code_IPC: SOIC127P600-16; ComponentLink1Description: LMS202E Datasheet; ComponentLink1URL: http://www.national.com/ds/LM/LMS202E.pdf; ComponentLink2Description: LMS202E Web Page; ComponentLink2URL: http://www.national.com/pf/LM/LMS202E.html; ComponentLink3Description: M16A Package Page; ComponentLink3URL: http://www.national.com/packaging/folders/m16a.html
footprint M16A_N (SOIC, 16-Leads, Body 9.9x3.9mm, Pitch 1.27mm, IPC Medium Density)
footprint M16A_L (SOIC, 16-Leads, Body 9.9x3.9mm, Pitch 1.27mm, IPC High Density)
footprint M16A_M (SOIC, 16-Leads, Body 9.9x3.9mm, Pitch 1.27mm, IPC Low Density)
pins: 1 C1+ (in), 2 V+ (power), 3 C1- (in), 4 C2+ (in), 5 C2- (in), 6 V- (power), 7 T1OUT (out), 8 R1IN (in), 9 R1OUT (out), 10 TIN1 (in), 11 TIN2 (in), 12 R2OUT (out), 13 R2IN (in), 14 T2OUT (out), 15 GND (power), 16 VS (power)

## LMS202ECM/NOPB
designator U?
15KV ESD Rated, 5V Single Supply TIA/EIA-232 Dual Transceivers, 16-pin Narrow SOIC, Pb-Free; PartNumber: LMS202ECM/NOPB; Manufacturer: National Semiconductor; PackageTopMarking: NSUZXYTTE#*LMS202ECM; PowerWise: N; CompType: Interface IC; Published: 1-Mar-2010; DatasheetVersion: Mar-2003; PackageVersion: revJ, Aug-1995; PackageReference: M16A; Publisher: Altium Limited; PackageDescription: Molded Package, SO, .150in Wide, 16 Lead; Supplier 1: Digi-Key; Supplier Part Number 1: LMS202ECM-ND; RoHS: Y; PinCount: 16; Code_JEDEC: MS-012-AC; Code_IPC: SOIC127P600-16; ComponentLink1Description: LMS202E Datasheet; ComponentLink1URL: http://www.national.com/ds/LM/LMS202E.pdf; ComponentLink2Description: LMS202E Web Page; ComponentLink2URL: http://www.national.com/pf/LM/LMS202E.html; ComponentLink3Description: M16A Package Page; ComponentLink3URL: http://www.national.com/packaging/folders/m16a.html
footprint M16A_N (SOIC, 16-Leads, Body 9.9x3.9mm, Pitch 1.27mm, IPC Medium Density)
footprint M16A_L (SOIC, 16-Leads, Body 9.9x3.9mm, Pitch 1.27mm, IPC High Density)
footprint M16A_M (SOIC, 16-Leads, Body 9.9x3.9mm, Pitch 1.27mm, IPC Low Density)
pins: 1 C1+ (in), 2 V+ (power), 3 C1- (in), 4 C2+ (in), 5 C2- (in), 6 V- (power), 7 T1OUT (out), 8 R1IN (in), 9 R1OUT (out), 10 TIN1 (in), 11 TIN2 (in), 12 R2OUT (out), 13 R2IN (in), 14 T2OUT (out), 15 GND (power), 16 VS (power)

## LMS202ECMX
designator U?
15KV ESD Rated, 5V Single Supply TIA/EIA-232 Dual Transceivers, 16-pin Narrow SOIC; PartNumber: LMS202ECMX; Manufacturer: National Semiconductor; PackageTopMarking: NSUZXYTTE#*LMS202ECM; PowerWise: N; CompType: Interface IC; Published: 1-Mar-2010; DatasheetVersion: Mar-2003; PackageVersion: revJ, Aug-1995; PackageReference: M16A; Publisher: Altium Limited; PackageDescription: Molded Package, SO, .150in Wide, 16 Lead; RoHS: N; PinCount: 16; Code_JEDEC: MS-012-AC; Code_IPC: SOIC127P600-16; ComponentLink1Description: LMS202E Datasheet; ComponentLink1URL: http://www.national.com/ds/LM/LMS202E.pdf; ComponentLink2Description: LMS202E Web Page; ComponentLink2URL: http://www.national.com/pf/LM/LMS202E.html; ComponentLink3Description: M16A Package Page; ComponentLink3URL: http://www.national.com/packaging/folders/m16a.html
footprint M16A_N (SOIC, 16-Leads, Body 9.9x3.9mm, Pitch 1.27mm, IPC Medium Density)
footprint M16A_L (SOIC, 16-Leads, Body 9.9x3.9mm, Pitch 1.27mm, IPC High Density)
footprint M16A_M (SOIC, 16-Leads, Body 9.9x3.9mm, Pitch 1.27mm, IPC Low Density)
pins: 1 C1+ (in), 2 V+ (power), 3 C1- (in), 4 C2+ (in), 5 C2- (in), 6 V- (power), 7 T1OUT (out), 8 R1IN (in), 9 R1OUT (out), 10 TIN1 (in), 11 TIN2 (in), 12 R2OUT (out), 13 R2IN (in), 14 T2OUT (out), 15 GND (power), 16 VS (power)

## LMS202EIM
designator U?
15KV ESD Rated, 5V Single Supply TIA/EIA-232 Dual Transceivers, 16-pin Narrow SOIC; PartNumber: LMS202EIM; Manufacturer: National Semiconductor; PackageTopMarking: NSUZXYTTE#*LMS202EIM; PowerWise: N; CompType: Interface IC; Published: 4-Dec-2008; DatasheetVersion: Mar-2003; PackageVersion: revJ, Aug-1995; PackageReference: M16A; Publisher: Altium Limited; PackageDescription: Molded Package, SO, .150in Wide, 16 Lead; Supplier 1: Farnell; Supplier Part Number 1: 9490795; RoHS: N; PinCount: 16; Code_JEDEC: MS-012-AC; Code_IPC: SOIC127P600-16; ComponentLink1Description: LMS202E Datasheet; ComponentLink1URL: http://www.national.com/ds/LM/LMS202E.pdf; ComponentLink2Description: LMS202E Web Page; ComponentLink2URL: http://www.national.com/pf/LM/LMS202E.html; ComponentLink3Description: M16A Package Page; ComponentLink3URL: http://www.national.com/packaging/folders/m16a.html
footprint M16A_N (SOIC, 16-Leads, Body 9.9x3.9mm, Pitch 1.27mm, IPC Medium Density)
footprint M16A_L (SOIC, 16-Leads, Body 9.9x3.9mm, Pitch 1.27mm, IPC High Density)
footprint M16A_M (SOIC, 16-Leads, Body 9.9x3.9mm, Pitch 1.27mm, IPC Low Density)
pins: 1 C1+ (in), 2 V+ (power), 3 C1- (in), 4 C2+ (in), 5 C2- (in), 6 V- (power), 7 T1OUT (out), 8 R1IN (in), 9 R1OUT (out), 10 TIN1 (in), 11 TIN2 (in), 12 R2OUT (out), 13 R2IN (in), 14 T2OUT (out), 15 GND (power), 16 VS (power)

## LMS202EIM/NOPB
designator U?
15KV ESD Rated, 5V Single Supply TIA/EIA-232 Dual Transceivers, 16-pin Narrow SOIC, Pb-Free; PartNumber: LMS202EIM/NOPB; Manufacturer: National Semiconductor; PackageTopMarking: NSUZXYTTE#*LMS202EIM; PowerWise: N; CompType: Interface IC; Published: 1-Mar-2010; DatasheetVersion: Mar-2003; PackageVersion: revJ, Aug-1995; PackageReference: M16A; Publisher: Altium Limited; PackageDescription: Molded Package, SO, .150in Wide, 16 Lead; Supplier 1: Digi-Key; Supplier Part Number 1: LMS202EIM-ND; RoHS: Y; PinCount: 16; Code_JEDEC: MS-012-AC; Code_IPC: SOIC127P600-16; ComponentLink1Description: LMS202E Datasheet; ComponentLink1URL: http://www.national.com/ds/LM/LMS202E.pdf; ComponentLink2Description: LMS202E Web Page; ComponentLink2URL: http://www.national.com/pf/LM/LMS202E.html; ComponentLink3Description: M16A Package Page; ComponentLink3URL: http://www.national.com/packaging/folders/m16a.html
footprint M16A_N (SOIC, 16-Leads, Body 9.9x3.9mm, Pitch 1.27mm, IPC Medium Density)
footprint M16A_L (SOIC, 16-Leads, Body 9.9x3.9mm, Pitch 1.27mm, IPC High Density)
footprint M16A_M (SOIC, 16-Leads, Body 9.9x3.9mm, Pitch 1.27mm, IPC Low Density)
pins: 1 C1+ (in), 2 V+ (power), 3 C1- (in), 4 C2+ (in), 5 C2- (in), 6 V- (power), 7 T1OUT (out), 8 R1IN (in), 9 R1OUT (out), 10 TIN1 (in), 11 TIN2 (in), 12 R2OUT (out), 13 R2IN (in), 14 T2OUT (out), 15 GND (power), 16 VS (power)

## LMS202EIMX
designator U?
15KV ESD Rated, 5V Single Supply TIA/EIA-232 Dual Transceivers, 16-pin Narrow SOIC; PartNumber: LMS202EIMX; Manufacturer: National Semiconductor; PackageTopMarking: NSUZXYTTE#*LMS202EIM; PowerWise: N; CompType: Interface IC; Published: 1-Mar-2010; DatasheetVersion: Mar-2003; PackageVersion: revJ, Aug-1995; PackageReference: M16A; Publisher: Altium Limited; PackageDescription: Molded Package, SO, .150in Wide, 16 Lead; RoHS: N; PinCount: 16; Code_JEDEC: MS-012-AC; Code_IPC: SOIC127P600-16; ComponentLink1Description: LMS202E Datasheet; ComponentLink1URL: http://www.national.com/ds/LM/LMS202E.pdf; ComponentLink2Description: LMS202E Web Page; ComponentLink2URL: http://www.national.com/pf/LM/LMS202E.html; ComponentLink3Description: M16A Package Page; ComponentLink3URL: http://www.national.com/packaging/folders/m16a.html
footprint M16A_N (SOIC, 16-Leads, Body 9.9x3.9mm, Pitch 1.27mm, IPC Medium Density)
footprint M16A_L (SOIC, 16-Leads, Body 9.9x3.9mm, Pitch 1.27mm, IPC High Density)
footprint M16A_M (SOIC, 16-Leads, Body 9.9x3.9mm, Pitch 1.27mm, IPC Low Density)
pins: 1 C1+ (in), 2 V+ (power), 3 C1- (in), 4 C2+ (in), 5 C2- (in), 6 V- (power), 7 T1OUT (out), 8 R1IN (in), 9 R1OUT (out), 10 TIN1 (in), 11 TIN2 (in), 12 R2OUT (out), 13 R2IN (in), 14 T2OUT (out), 15 GND (power), 16 VS (power)

## LMX2430SLEX
designator U?
3.0 GHz/0.8 GHz PLLatinum Dual High Frequency Synthesizer for RF Personal Communications, 20-pin Laminate UCSP; PartNumber: LMX2430SLEX; Manufacturer: National Semiconductor; PackageTopMarking: NSXYTT*X2430*SLE; PowerWise: N; CompType: Interface IC; Published: 9-Oct-2009; DatasheetVersion: May-2003; PackageVersion: revA, Jun-2001; PackageReference: SLE20A; Publisher: Altium Limited; PackageDescription: Ultra TCSP, Plastic, Laminated, 3.5 x 3.5 x 0.6mm Body, 20 Lead, .5mm Pitch; Supplier 1: Farnell; Supplier Part Number 1: 8187681; RoHS: N; PinCount: 20; Code_JEDEC: MO-208-CCEA-1; ComponentLink1Description: LMX2430 Datasheet; ComponentLink1URL: http://www.national.com/ds/LM/LMX2430.pdf; ComponentLink2Description: LMX2430 Web Page; ComponentLink2URL: http://www.national.com/pf/LM/LMX2430.html; ComponentLink3Description: SLE20A Package Page; ComponentLink3URL: http://www.national.com/packaging/folders/sle20a.html
footprint SLE20A (PQFN, 20-Leads, Body 3.5x3.5mm, Pitch 0.5mm, NSC Recommended)
pins: 1 GND (power), 2 FINIF (in), 3 EN (in), 4 CPOUTIF (out), 5 ENOSC (in), 6 OSCOUT/FLOUTIF (out), 7 OSCIN (in), 8 VCC (power), 9 FTEST/LD (out), 10 FLOUTRF (out), 11 GND (power), 12 CPOUTRF (out), 13 GND (power), 14 FINRF (in), 15 ~{FINRF} (in), 16 VCC (power), 17 LE (in), 18 CLK (in), 19 DATA (in), 20 VCC (power)

## LMX2430SLEX/NOPB
designator U?
3.0 GHz/0.8 GHz PLLatinum Dual High Frequency Synthesizer for RF Personal Communications, 20-pin Laminate UCSP, Pb-Free; PartNumber: LMX2430SLEX/NOPB; Manufacturer: National Semiconductor; PackageTopMarking: NSXYTT*X2430*SLE; PowerWise: N; CompType: Interface IC; Published: 1-Mar-2010; DatasheetVersion: May-2003; PackageVersion: revA, Jun-2001; PackageReference: SLE20A; Publisher: Altium Limited; PackageDescription: Ultra TCSP, Plastic, Laminated, 3.5 x 3.5 x 0.6mm Body, 20 Lead, .5mm Pitch; Supplier 1: Digi-Key; Supplier Part Number 1: LMX2430SLEXTR-ND; Supplier 2: Digi-Key; Supplier Part Number 2: LMX2430SLEXCT-ND; Supplier 3: Digi-Key; Supplier Part Number 3: LMX2430SLEXDKR-ND; RoHS: Y; PinCount: 20; Code_JEDEC: MO-208-CCEA-1; ComponentLink1Description: LMX2430 Datasheet; ComponentLink1URL: http://www.national.com/ds/LM/LMX2430.pdf; ComponentLink2Description: LMX2430 Web Page; ComponentLink2URL: http://www.national.com/pf/LM/LMX2430.html; ComponentLink3Description: SLE20A Package Page; ComponentLink3URL: http://www.national.com/packaging/folders/sle20a.html
footprint SLE20A (PQFN, 20-Leads, Body 3.5x3.5mm, Pitch 0.5mm, NSC Recommended)
pins: 1 GND (power), 2 FINIF (in), 3 EN (in), 4 CPOUTIF (out), 5 ENOSC (in), 6 OSCOUT/FLOUTIF (out), 7 OSCIN (in), 8 VCC (power), 9 FTEST/LD (out), 10 FLOUTRF (out), 11 GND (power), 12 CPOUTRF (out), 13 GND (power), 14 FINRF (in), 15 ~{FINRF} (in), 16 VCC (power), 17 LE (in), 18 CLK (in), 19 DATA (in), 20 VCC (power)

## LMX2430TM
designator U?
3.0 GHz/0.8 GHz PLLatinum Dual High Frequency Synthesizer for RF Personal Communications, 20-pin TSSOP; PartNumber: LMX2430TM; Manufacturer: National Semiconductor; PackageTopMarking: NSUZXYTT*LMX2430*TMDD; PowerWise: N; CompType: Interface IC; Published: 4-Dec-2008; DatasheetVersion: May-2003; PackageVersion: revE, Mar-2003; PackageReference: MTC20; Publisher: Altium Limited; PackageDescription: Molded TSSOP, Jedec, 6.5 x 4.4 x 0.9mm Body, 20 Lead, 0.65mm Pitch; Supplier 1: Farnell; Supplier Part Number 1: 8187690; RoHS: Y; PinCount: 20; Code_JEDEC: MO-153-AC; ComponentLink1Description: LMX2430 Datasheet; ComponentLink1URL: http://www.national.com/ds/LM/LMX2430.pdf; ComponentLink2Description: LMX2430 Web Page; ComponentLink2URL: http://www.national.com/pf/LM/LMX2430.html; ComponentLink3Description: MTC20 Package Page; ComponentLink3URL: http://www.national.com/packaging/folders/mtc20.html
footprint MTC20_N (TSOP, 20-Leads, Body 6.5x4.4mm, Pitch 0.65mm, IPC Medium Density)
footprint MTC20_L (TSOP, 20-Leads, Body 6.5x4.4mm, Pitch 0.65mm, IPC High Density)
footprint MTC20_M (TSOP, 20-Leads, Body 6.5x4.4mm, Pitch 0.65mm, IPC Low Density)
pins: 1 VCC (power), 2 GND (power), 3 FINIF (in), 4 EN (in), 5 CPOUTIF (out), 6 ENOSC (in), 7 OSCOUT/FLOUTIF (out), 8 OSCIN (in), 9 VCC (power), 10 FTEST/LD (out), 11 FLOUTRF (out), 12 GND (power), 13 CPOUTRF (out), 14 GND (power), 15 FINRF (in), 16 ~{FINRF} (in), 17 VCC (power), 18 LE (in), 19 CLK (in), 20 DATA (in)

## LMX2430TM/NOPB
designator U?
3.0 GHz/0.8 GHz PLLatinum Dual High Frequency Synthesizer for RF Personal Communications, 20-pin TSSOP, Pb-Free; PartNumber: LMX2430TM/NOPB; Manufacturer: National Semiconductor; PackageTopMarking: NSUZXYTT*LMX2430*TMDD; PowerWise: N; CompType: Interface IC; Published: 1-Mar-2010; DatasheetVersion: May-2003; PackageVersion: revE, Mar-2003; PackageReference: MTC20; Publisher: Altium Limited; PackageDescription: Molded TSSOP, Jedec, 6.5 x 4.4 x 0.9mm Body, 20 Lead, 0.65mm Pitch; Supplier 1: Digi-Key; Supplier Part Number 1: LMX2430TM-ND; RoHS: Y; PinCount: 20; Code_JEDEC: MO-153-AC; ComponentLink1Description: LMX2430 Datasheet; ComponentLink1URL: http://www.national.com/ds/LM/LMX2430.pdf; ComponentLink2Description: LMX2430 Web Page; ComponentLink2URL: http://www.national.com/pf/LM/LMX2430.html; ComponentLink3Description: MTC20 Package Page; ComponentLink3URL: http://www.national.com/packaging/folders/mtc20.html
footprint MTC20_N (TSOP, 20-Leads, Body 6.5x4.4mm, Pitch 0.65mm, IPC Medium Density)
footprint MTC20_L (TSOP, 20-Leads, Body 6.5x4.4mm, Pitch 0.65mm, IPC High Density)
footprint MTC20_M (TSOP, 20-Leads, Body 6.5x4.4mm, Pitch 0.65mm, IPC Low Density)
pins: 1 VCC (power), 2 GND (power), 3 FINIF (in), 4 EN (in), 5 CPOUTIF (out), 6 ENOSC (in), 7 OSCOUT/FLOUTIF (out), 8 OSCIN (in), 9 VCC (power), 10 FTEST/LD (out), 11 FLOUTRF (out), 12 GND (power), 13 CPOUTRF (out), 14 GND (power), 15 FINRF (in), 16 ~{FINRF} (in), 17 VCC (power), 18 LE (in), 19 CLK (in), 20 DATA (in)

## LMX2430TMX
designator U?
3.0 GHz/0.8 GHz PLLatinum Dual High Frequency Synthesizer for RF Personal Communications, 20-pin TSSOP; PartNumber: LMX2430TMX; Manufacturer: National Semiconductor; PackageTopMarking: NSUZXYTT*LMX2430*TMDD; PowerWise: N; CompType: Interface IC; Published: 1-Mar-2010; DatasheetVersion: May-2003; PackageVersion: revE, Mar-2003; PackageReference: MTC20; Publisher: Altium Limited; PackageDescription: Molded TSSOP, Jedec, 6.5 x 4.4 x 0.9mm Body, 20 Lead, 0.65mm Pitch; Supplier 1: Digi-Key; Supplier Part Number 1: LMX2430TMX-ND; RoHS: N; PinCount: 20; Code_JEDEC: MO-153-AC; ComponentLink1Description: LMX2430 Datasheet; ComponentLink1URL: http://www.national.com/ds/LM/LMX2430.pdf; ComponentLink2Description: LMX2430 Web Page; ComponentLink2URL: http://www.national.com/pf/LM/LMX2430.html; ComponentLink3Description: MTC20 Package Page; ComponentLink3URL: http://www.national.com/packaging/folders/mtc20.html
footprint MTC20_N (TSOP, 20-Leads, Body 6.5x4.4mm, Pitch 0.65mm, IPC Medium Density)
footprint MTC20_L (TSOP, 20-Leads, Body 6.5x4.4mm, Pitch 0.65mm, IPC High Density)
footprint MTC20_M (TSOP, 20-Leads, Body 6.5x4.4mm, Pitch 0.65mm, IPC Low Density)
pins: 1 VCC (power), 2 GND (power), 3 FINIF (in), 4 EN (in), 5 CPOUTIF (out), 6 ENOSC (in), 7 OSCOUT/FLOUTIF (out), 8 OSCIN (in), 9 VCC (power), 10 FTEST/LD (out), 11 FLOUTRF (out), 12 GND (power), 13 CPOUTRF (out), 14 GND (power), 15 FINRF (in), 16 ~{FINRF} (in), 17 VCC (power), 18 LE (in), 19 CLK (in), 20 DATA (in)

## LMX2430TMX/NOPB
designator U?
3.0 GHz/0.8 GHz PLLatinum Dual High Frequency Synthesizer for RF Personal Communications, 20-pin TSSOP, Pb-Free; PartNumber: LMX2430TMX/NOPB; Manufacturer: National Semiconductor; PackageTopMarking: NSUZXYTT*LMX2430*TMDD; PowerWise: N; CompType: Interface IC; Published: 1-Mar-2010; DatasheetVersion: May-2003; PackageVersion: revE, Mar-2003; PackageReference: MTC20; Publisher: Altium Limited; PackageDescription: Molded TSSOP, Jedec, 6.5 x 4.4 x 0.9mm Body, 20 Lead, 0.65mm Pitch; RoHS: Y; PinCount: 20; Code_JEDEC: MO-153-AC; ComponentLink1Description: LMX2430 Datasheet; ComponentLink1URL: http://www.national.com/ds/LM/LMX2430.pdf; ComponentLink2Description: LMX2430 Web Page; ComponentLink2URL: http://www.national.com/pf/LM/LMX2430.html; ComponentLink3Description: MTC20 Package Page; ComponentLink3URL: http://www.national.com/packaging/folders/mtc20.html
footprint MTC20_N (TSOP, 20-Leads, Body 6.5x4.4mm, Pitch 0.65mm, IPC Medium Density)
footprint MTC20_L (TSOP, 20-Leads, Body 6.5x4.4mm, Pitch 0.65mm, IPC High Density)
footprint MTC20_M (TSOP, 20-Leads, Body 6.5x4.4mm, Pitch 0.65mm, IPC Low Density)
pins: 1 VCC (power), 2 GND (power), 3 FINIF (in), 4 EN (in), 5 CPOUTIF (out), 6 ENOSC (in), 7 OSCOUT/FLOUTIF (out), 8 OSCIN (in), 9 VCC (power), 10 FTEST/LD (out), 11 FLOUTRF (out), 12 GND (power), 13 CPOUTRF (out), 14 GND (power), 15 FINRF (in), 16 ~{FINRF} (in), 17 VCC (power), 18 LE (in), 19 CLK (in), 20 DATA (in)

## LMX2433SLEX
designator U?
3.6 GHz/1.7 GHz PLLatinum Dual High Frequency Synthesizer for RF Personal Communications, 20-pin Laminate UCSP; PartNumber: LMX2433SLEX; Manufacturer: National Semiconductor; PackageTopMarking: NSXYTT*X2433*SLE; PowerWise: N; CompType: Interface IC; Published: 4-Dec-2008; DatasheetVersion: May-2003; PackageVersion: revA, Jun-2001; PackageReference: SLE20A; Publisher: Altium Limited; PackageDescription: Ultra TCSP, Plastic, Laminated, 3.5 x 3.5 x 0.6mm Body, 20 Lead, .5mm Pitch; Supplier 1: Farnell; Supplier Part Number 1: 8187703; RoHS: N; PinCount: 20; Code_JEDEC: MO-208-CCEA-1; ComponentLink1Description: LMX2433 Datasheet; ComponentLink1URL: http://www.national.com/ds/LM/LMX2433.pdf; ComponentLink2Description: LMX2433 Web Page; ComponentLink2URL: http://www.national.com/pf/LM/LMX2433.html; ComponentLink3Description: SLE20A Package Page; ComponentLink3URL: http://www.national.com/packaging/folders/sle20a.html
footprint SLE20A (PQFN, 20-Leads, Body 3.5x3.5mm, Pitch 0.5mm, NSC Recommended)
pins: 1 GND (power), 2 FINIF (in), 3 EN (in), 4 CPOUTIF (out), 5 ENOSC (in), 6 OSCOUT/FLOUTIF (out), 7 OSCIN (in), 8 VCC (power), 9 FTEST/LD (out), 10 FLOUTRF (out), 11 GND (power), 12 CPOUTRF (out), 13 GND (power), 14 FINRF (in), 15 ~{FINRF} (in), 16 VCC (power), 17 LE (in), 18 CLK (in), 19 DATA (in), 20 VCC (power)

## LMX2433SLEX/NOPB
designator U?
3.6 GHz/1.7 GHz PLLatinum Dual High Frequency Synthesizer for RF Personal Communications, 20-pin Laminate UCSP, Pb-Free; PartNumber: LMX2433SLEX/NOPB; Manufacturer: National Semiconductor; PackageTopMarking: NSXYTT*X2433*SLE; PowerWise: N; CompType: Interface IC; Published: 1-Mar-2010; DatasheetVersion: May-2003; PackageVersion: revA, Jun-2001; PackageReference: SLE20A; Publisher: Altium Limited; PackageDescription: Ultra TCSP, Plastic, Laminated, 3.5 x 3.5 x 0.6mm Body, 20 Lead, .5mm Pitch; Supplier 1: Digi-Key; Supplier Part Number 1: LMX2433SLEXTR-ND; Supplier 2: Digi-Key; Supplier Part Number 2: LMX2433SLEXCT-ND; Supplier 3: Digi-Key; Supplier Part Number 3: LMX2433SLEXDKR-ND; RoHS: Y; PinCount: 20; Code_JEDEC: MO-208-CCEA-1; ComponentLink1Description: LMX2433 Datasheet; ComponentLink1URL: http://www.national.com/ds/LM/LMX2433.pdf; ComponentLink2Description: LMX2433 Web Page; ComponentLink2URL: http://www.national.com/pf/LM/LMX2433.html; ComponentLink3Description: SLE20A Package Page; ComponentLink3URL: http://www.national.com/packaging/folders/sle20a.html
footprint SLE20A (PQFN, 20-Leads, Body 3.5x3.5mm, Pitch 0.5mm, NSC Recommended)
pins: 1 GND (power), 2 FINIF (in), 3 EN (in), 4 CPOUTIF (out), 5 ENOSC (in), 6 OSCOUT/FLOUTIF (out), 7 OSCIN (in), 8 VCC (power), 9 FTEST/LD (out), 10 FLOUTRF (out), 11 GND (power), 12 CPOUTRF (out), 13 GND (power), 14 FINRF (in), 15 ~{FINRF} (in), 16 VCC (power), 17 LE (in), 18 CLK (in), 19 DATA (in), 20 VCC (power)

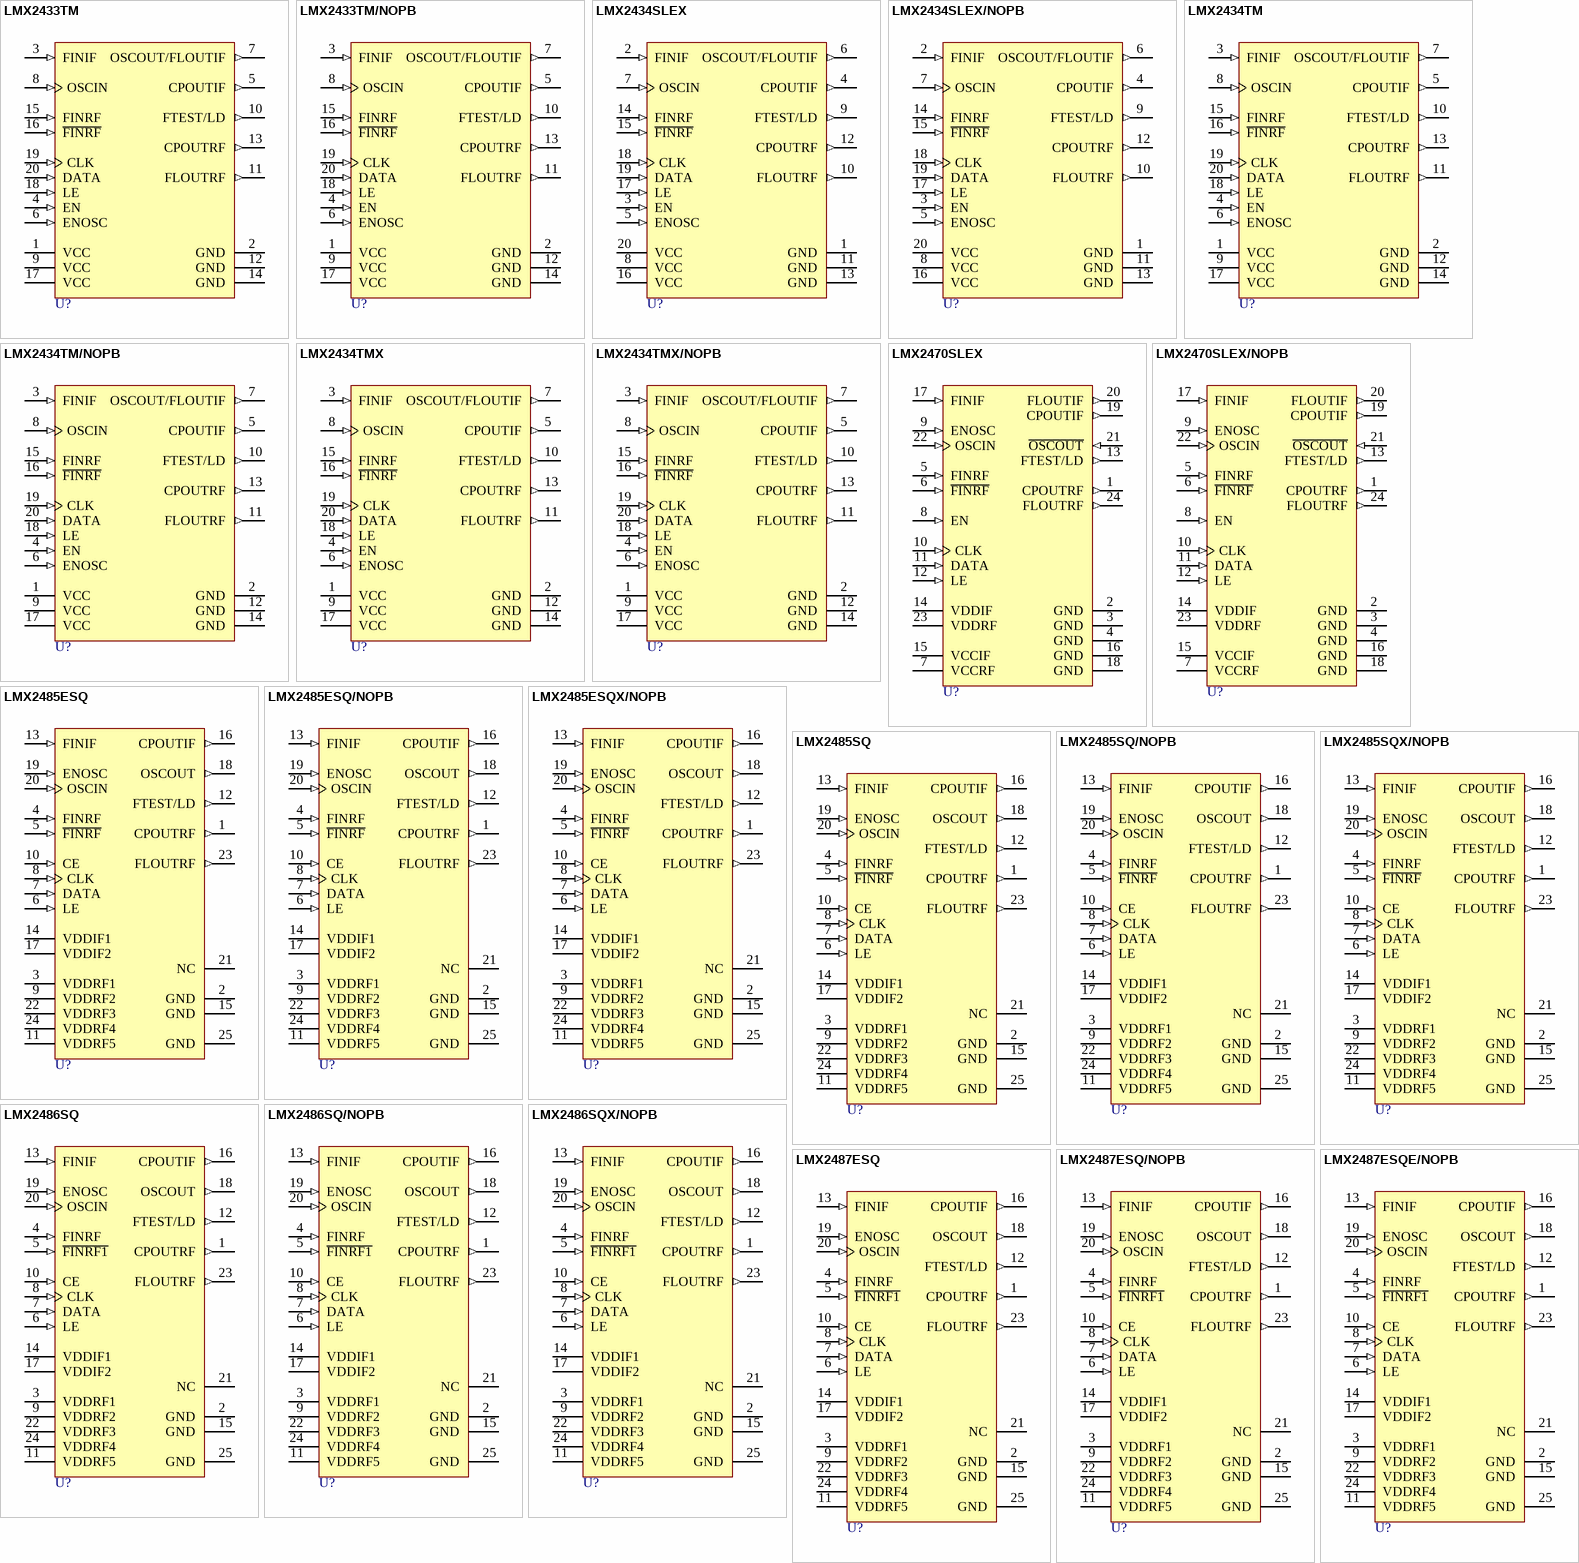
[diagram p93: symbols LMX2433TM to LMX2487ESQE/NOPB]